# Altium schematic symbol library XAL6020-112MEB.SchLib: 1 symbol
Pins are listed as number, name and electrical type; pins without a type are passive.

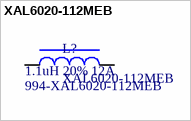
[diagram p0: symbol XAL6020-112MEB]

## XAL6020-112MEB
designator L?  value 1.1uH 20% 12A  Supplier Part Number 1: 994-XAL6020-112MEB
Fixed Inductors 1.1uH 20% 12A, 13.1mOhms AEC-Q200; ComponentLink1Description: Datasheet; ComponentLink1URL: https://www.mouser.ca/datasheet/2/597/xal6020-774588.pdf; Supplier 1: Mouser
footprint XAL6020-112MEB (Fixed Inductors 1.1uH 20% 12A 13.1mOhms AEC-Q200)
pins: 1, 2